# EAGLE library part CC2640-5MM (library chips)
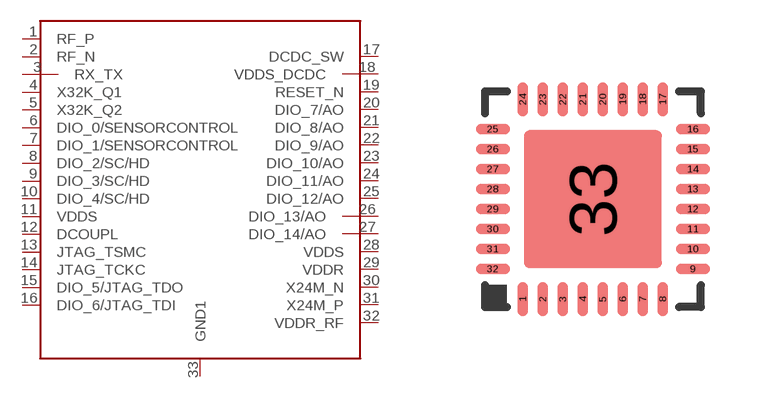
[diagram p60: symbol with the pads of S-PVQFN-N32; footprint S-PVQFN-N32]

Designator prefix -

## CC2640-5MM  [S-PVQFN-N32]
1  RF_P
2  RF_N
3  RX_TX
4  X32K_Q1
5  X32K_Q2
6  DIO_0/SENSORCONTROL
7  DIO_1/SENSORCONTROL
8  DIO_2/SC/HD
9  DIO_3/SC/HD
10  DIO_4/SC/HD
11  VDDS
12  DCOUPL
13  JTAG_TSMC
14  JTAG_TCKC
15  DIO_5/JTAG_TDO
16  DIO_6/JTAG_TDI
17  DCDC_SW
18  VDDS_DCDC
19  RESET_N
20  DIO_7/AO
21  DIO_8/AO
22  DIO_9/AO
23  DIO_10/AO
24  DIO_11/AO
25  DIO_12/AO
26  DIO_13/AO
27  DIO_14/AO
28  VDDS
29  VDDR
30  X24M_N
31  X24M_P
32  VDDR_RF
33  GND1

## Footprint S-PVQFN-N32 (pad centres in mm)
smd 0.26 x 0.85: 1 -0.48,-2.5; 2 0.02,-2.5; 3 0.52,-2.5; 4 1.02,-2.5; 5 1.52,-2.5; 6 2.02,-2.5; 7 2.52,-2.5; 8 3.02,-2.5; 17 3.02,2.5; 18 2.52,2.5; 19 2.02,2.5; 20 1.52,2.5; 21 1.02,2.5; 22 0.52,2.5; 23 0.02,2.5; 24 -0.48,2.5
smd 0.85 x 0.26: 9 3.77,-1.75; 10 3.77,-1.25; 11 3.77,-0.75; 12 3.77,-0.25; 13 3.77,0.25; 14 3.77,0.75; 15 3.77,1.25; 16 3.77,1.75; 25 -1.23,1.75; 26 -1.23,1.25; 27 -1.23,0.75; 28 -1.23,0.25; 29 -1.23,-0.25; 30 -1.23,-0.75; 31 -1.23,-1.25; 32 -1.23,-1.75
smd 3.45 x 3.45: 33 1.27,0